# EAGLE library part LC709203F (library LinnesLab-Power)
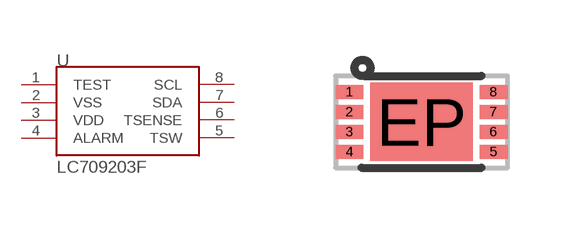
[diagram p3: symbol with the pads of 8-WDFN(3X4); footprint 8-WDFN(3X4)]

Designator prefix -

## LC709203F  [8-WDFN(3X4)]
1  TEST
2  VSS
3  VDD
4  ALARM
5  TSW
6  TSENSE
7  SDA
8  SCL

## Footprint 8-WDFN(3X4) (pad centres in mm)
TDFN - 8pin, 2mmx3mm
smd 0.7 x 0.35: 1 -1.8,0.75; 2 -1.8,0.25; 3 -1.8,-0.25; 4 -1.8,-0.75; 5 1.8,-0.75; 6 1.8,-0.25; 7 1.8,0.25; 8 1.8,0.75
smd 2.56 x 1.96: EP 0,0